# Altium schematic symbol library Schlib_tiny_dot.SchLib: 8 symbols
Pins are listed as number, name and electrical type; pins without a type are passive.

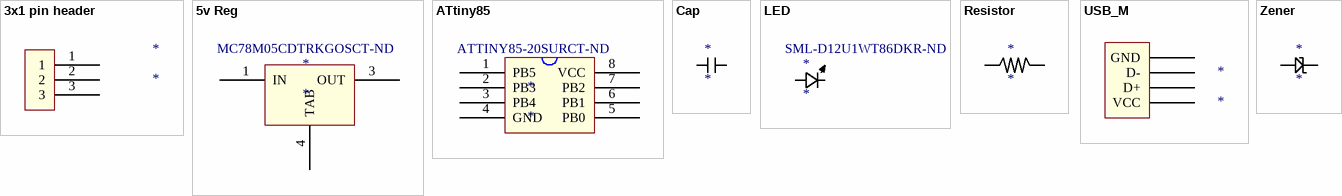
[diagram p0: symbols 3x1 pin header to Zener]

## 3x1 pin header
designator *
footprint 3x1 100mil header 1m diam
pins: 1, 2, 3

## 5v Reg
designator *  Supplier Part Number 1: MC78M05CDTRKGOSCT-ND
Supplier 1: Digi-Key
pins: 1 IN, 3 OUT, 4 TAB

## ATtiny85
designator *  Supplier Part Number 1: ATTINY85-20SURCT-ND
Supplier 1: Digi-Key
footprint SOIC127P800X216-8N (SOIC, 8-Leads, Body 5.24x5.29mm, Pitch 1.27mm, IPC Medium Density)
pins: 1 PB5, 2 PB3, 3 PB4, 4 GND, 5 PB0, 6 PB1, 7 PB2, 8 VCC

## Cap
designator *
footprint CAPC2012X14M (Chip Capacitor, 2-Leads, Body 2.00x1.25mm, IPC Low Density)
pins: 1, 2

## LED
designator *  Supplier Part Number 1: SML-D12U1WT86DKR-ND
Supplier 1: Digi-Key
footprint Diode_0603
pins: A, K

## Resistor
designator *
Supplier 1: Digi-Key
footprint Resistor_0805
pins: 1, 2

## USB_M
designator *
footprint InlineUSB
pins: D+, D-, GND, VCC

## Zener
designator *
Supplier 1: Digi-Key
footprint SODFL250X110-2M (SODFL, 2-Leads, Body 1.25x2.50mm, IPC Low Density)
pins: A, K